# Altium footprint library rcl@1.PCBLIB: 487 footprints (part 25 of 31)
Each footprint in its own frame and in the unit in brackets; x right, y up, seen from the top. Pads: shape width x height; smd on the part's side, far side on the other; paste and mask are expansions set on the pad; w line width, h text height; cw(c..) or ccw(c..) is an arc to the next point about the centre after c.
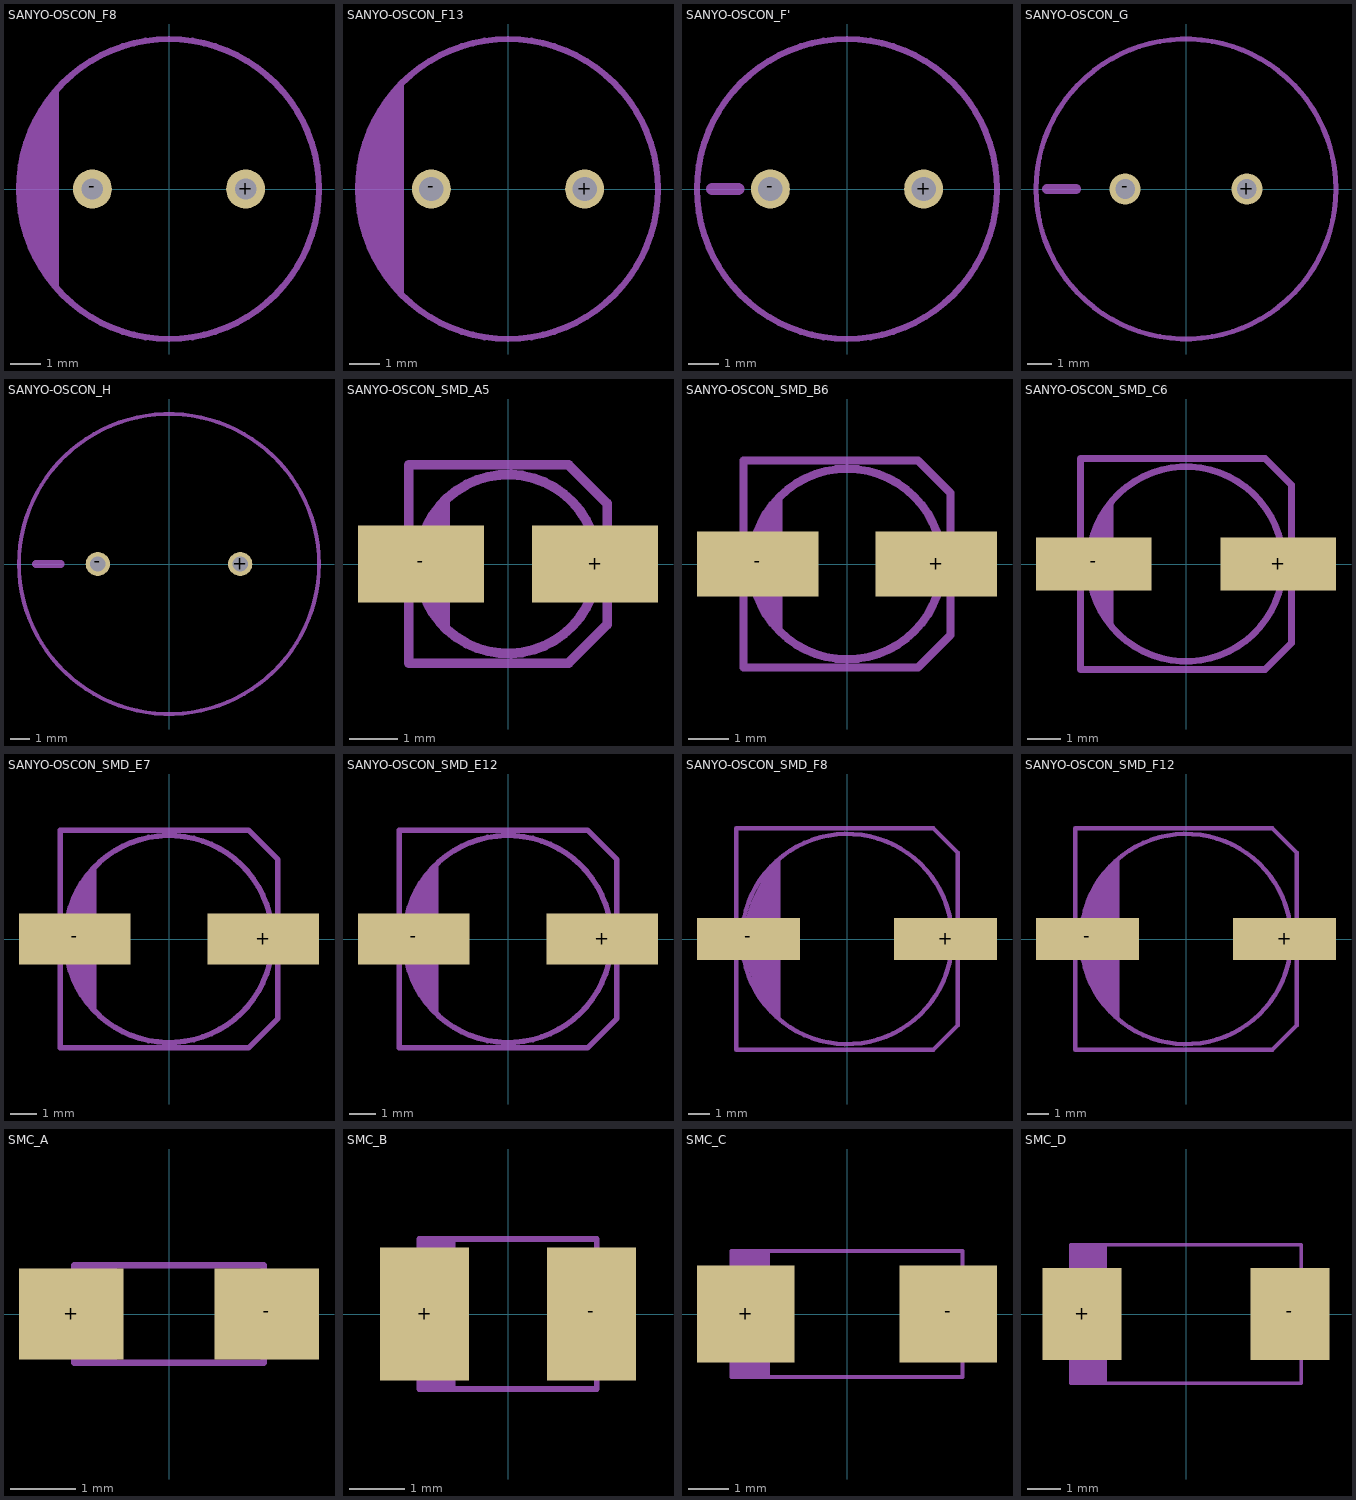
[diagram p24: the footprints below, top view; thin cyan lines are the x and y axes]

## SANYO-OSCON_F8 [mil]
pads (2):
  round 50 hole 27.56: +(98.43,0) -(-98.43,0)
tPlace:
  circle w8: c0,0 r192.91
  region: -141.73,125.98 -141.73,-127.95 -147.54,-121.4 -157.94,-107.3 -167.04,-92.33 -174.77,-76.6 -181.06,-60.25 -185.86,-43.4 -189.14,-26.19 -190.86,-8.76 -190.94,0 -190.86,8.65 -189.14,25.86 -185.87,42.84 -181.06,59.46 -174.77,75.57 -167.04,91.04 -157.94,105.75 -147.54,119.57 -141.73,125.98

## SANYO-OSCON_F13 [mil]
pads (2):
  round 50 hole 31.5: +(98.43,0) -(-98.43,0)
tPlace:
  circle w8: c0,0 r192.91
  region: -133.86,135.83 -133.86,-133.86 -140.27,-127.13 -151.85,-112.57 -162.07,-97.04 -170.87,-80.65 -178.16,-63.54 -183.9,-45.85 -188.03,-27.72 -190.52,-9.29 -190.94,0 -190.62,9.42 -188.27,28.11 -184.23,46.52 -178.54,64.48 -171.24,81.85 -162.39,98.48 -152.07,114.25 -140.36,129.01 -133.86,135.83

## SANYO-OSCON_F' [mil]
pads (2):
  round 50 hole 31.5: +(98.43,0) -(-98.43,0)
tPlace:
  circle w8: c0,0 r192.92
  lines w16: -173.23,0 -139.76,0

## SANYO-OSCON_G [mil]
pads (2):
  round 50 hole 31.5: +(98.43,0) -(-98.43,0)
tPlace:
  circle w8: c0,0 r242.13
  lines w16: -224.41,0 -177.17,0

## SANYO-OSCON_H [mil]
pads (2):
  round 50 hole 31.5: +(147.64,0) -(-147.64,0)
tPlace:
  circle w8: c0,0 r311.03
  lines w16: -275.59,0 -224.41,0

## SANYO-OSCON_SMD_A5 [mil]
pads (2):
  rect 102.36x62.99 smd: +(70.87,0) -(-70.87,0)
tDocu:
  circle w8: c0,0 r72.83
  region: -47.24,-53.15 -47.24,53.15 -52.65,47.98 -61.27,35.75 -67.35,22.07 -70.66,7.48 -70.87,0 -70.29,-7.41 -66.64,-21.82 -60.61,-35.4 -52.35,-47.76 -47.24,-53.15
  lines w8: -80.71,-80.71 -80.71,80.71 ; 80.71,-49.21 80.71,49.21
tPlace:
  lines w8: -80.71,-80.71 49.21,-80.71 80.71,-49.21 ; -80.71,80.71 49.21,80.71 80.71,49.21

## SANYO-OSCON_SMD_B6 [mm]
pads (2):
  rect 3x1.6 smd: +(2.2,0) -(-2.2,0)
tDocu:
  circle w0.203: c0,0 r2.35
  region: -1.6,-1.65 -1.6,1.65 -1.75,1.478 -1.991,1.091 -2.17,0.67 -2.28,0.227 -2.3,0 -2.293,-0.23 -2.194,-0.679 -2.014,-1.102 -1.76,-1.485 -1.6,-1.65
  lines w0.203: -2.55,-2.55 -2.55,2.55 ; 2.55,-1.75 2.55,1.75
tPlace:
  lines w0.203: -2.55,-2.55 1.75,-2.55 2.55,-1.75 ; -2.55,2.55 1.75,2.55 2.55,1.75

## SANYO-OSCON_SMD_C6 [mil]
pads (2):
  rect 137.8x62.99 smd: +(110.24,0) -(-110.24,0)
tDocu:
  circle w8: c0,0 r116.14
  region: -86.61,74.8 -86.61,-74.8 -92.9,-66.89 -102.59,-49.17 -109.13,-30.05 -112.32,-10.1 -112.2,0 -112.05,10.07 -108.6,29.91 -102.09,48.96 -92.66,66.75 -86.61,74.8
  lines w8: -125.98,-125.98 -125.98,125.98 ; 125.98,-94.49 125.98,94.49
tPlace:
  lines w8: -125.98,-125.98 94.49,-125.98 125.98,-94.49 ; -125.98,125.98 94.49,125.98 125.98,94.49

## SANYO-OSCON_SMD_E7 [mil]
pads (2):
  rect 163.39x74.8 smd: +(137.8,0) -(-137.8,0)
tDocu:
  circle w8: c0,0 r151.57
  region: -106.3,104.33 -106.3,-104.33 -111.55,-99.3 -120.95,-88.2 -129.16,-76.2 -136.09,-63.41 -141.66,-49.98 -145.82,-36.05 -148.53,-21.76 -149.75,-7.27 -149.61,0 -149.54,7.24 -148.02,21.65 -145.12,35.84 -140.87,49.69 -135.32,63.06 -128.51,75.85 -120.5,87.92 -111.38,99.17 -106.3,104.33
  lines w8: -159.45,-159.45 -159.45,159.45 ; 159.45,-116.14 159.45,116.14
tPlace:
  lines w8: -159.45,-159.45 116.14,-159.45 159.45,-116.14 ; -159.45,159.45 116.14,159.45 159.45,116.14

## SANYO-OSCON_SMD_E12 [mil]
pads (2):
  rect 163.39x74.8 smd: +(137.8,0) -(-137.8,0)
tDocu:
  circle w8: c0,0 r151.57
  region: -102.36,-108.27 -102.36,108.27 -107.94,103.06 -118.01,91.59 -126.92,79.19 -134.56,65.97 -140.88,52.08 -145.81,37.62 -149.29,22.76 -151.31,7.63 -151.57,0 -151.33,-7.63 -149.34,-22.77 -145.87,-37.65 -140.95,-52.1 -134.63,-66.01 -126.97,-79.22 -118.05,-91.61 -107.95,-103.07 -102.36,-108.27
  lines w8: -159.45,-159.45 -159.45,159.45 ; 159.45,-116.14 159.45,116.14
tPlace:
  lines w8: -159.45,-159.45 116.14,-159.45 159.45,-116.14 ; -159.45,159.45 116.14,159.45 159.45,116.14

## SANYO-OSCON_SMD_F8 [mm]
pads (2):
  rect 4.7x1.9 smd: +(4.5,0) -(-4.5,0)
tDocu:
  circle w0.203: c0,0 r4.8
  region: -3.05,-3.65 -3.05,3.65 -3.234,3.47 -3.568,3.079 -3.866,2.659 -4.124,2.213 -4.342,1.747 -4.516,1.262 -4.646,0.764 -4.731,0.257 -4.75,0 -4.734,-0.257 -4.655,-0.767 -4.528,-1.267 -4.355,-1.753 -4.138,-2.22 -3.877,-2.665 -3.576,-3.084 -3.237,-3.472 -3.05,-3.65
  lines w0.203: -5.05,-5.05 -5.05,5.05 ; 5.05,-3.95 5.05,3.95
tPlace:
  lines w0.203: -5.05,-5.05 3.95,-5.05 5.05,-3.95 ; -5.05,5.05 3.95,5.05 5.05,3.95

## SANYO-OSCON_SMD_F12 [mm]
pads (2):
  rect 4.7x1.9 smd: +(4.5,0) -(-4.5,0)
tDocu:
  circle w0.203: c0,0 r4.8
  region: -3.05,-3.65 -3.05,3.65 -3.247,3.481 -3.603,3.102 -3.916,2.689 -4.184,2.244 -4.403,1.773 -4.572,1.282 -4.687,0.775 -4.747,0.26 -4.75,0 -4.737,-0.258 -4.66,-0.768 -4.536,-1.269 -4.364,-1.756 -4.146,-2.224 -3.884,-2.669 -3.581,-3.087 -3.239,-3.474 -3.05,-3.65
  lines w0.203: -5.05,-5.05 -5.05,5.05 ; 5.05,-3.95 5.05,3.95
tPlace:
  lines w0.203: -5.05,-5.05 3.95,-5.05 5.05,-3.95 ; -5.05,5.05 3.95,5.05 5.05,3.95

## SMC_A [mil]
pads (2):
  rect 62.99x55.12 smd: +(-59.06,0) -(59.06,0)
tDocu:
  region: -62.99,-23.62 -62.99,23.62 -55.12,23.62 -55.12,-23.62
  region: 62.99,23.62 62.99,-23.62 55.12,-23.62 55.12,23.62
  region: -57.09,-29.53 -57.09,29.53 -31.5,29.53 -31.5,-29.53
  lines w4: -57.09,-29.53 57.09,-29.53 57.09,29.53 -57.09,29.53 -57.09,-29.53

## SMC_B [mil]
pads (2):
  rect 62.99x94.49 smd: +(-59.06,0) -(59.06,0)
tDocu:
  region: -68.9,-43.31 -68.9,43.31 -61.02,43.31 -61.02,-43.31
  region: 68.9,43.31 68.9,-43.31 61.02,-43.31 61.02,43.31
  region: -62.99,-53.15 -62.99,53.15 -37.4,53.15 -37.4,-53.15
  lines w4: -62.99,-53.15 62.99,-53.15 62.99,53.15 -62.99,53.15 -62.99,-53.15

## SMC_C [mil]
pads (2):
  rect 94.49x94.49 smd: +(-98.43,0) -(98.43,0)
tDocu:
  region: -118.11,-43.31 -118.11,43.31 -110.24,43.31 -110.24,-43.31
  region: 118.11,43.31 118.11,-43.31 110.24,-43.31 110.24,43.31
  region: -112.2,-61.02 -112.2,61.02 -74.8,61.02 -74.8,-61.02
  lines w4: -112.2,-61.02 112.2,-61.02 112.2,61.02 -112.2,61.02 -112.2,-61.02

## SMC_D [mil]
pads (2):
  rect 94.49x110.24 smd: +(-124.02,0) -(124.02,0)
tDocu:
  region: -143.7,-47.24 -143.7,47.24 -135.83,47.24 -135.83,-47.24
  region: 143.7,47.24 143.7,-47.24 135.83,-47.24 135.83,47.24
  region: -137.8,-82.68 -137.8,82.68 -94.49,82.68 -94.49,-82.68
  lines w4: -137.8,-82.68 137.8,-82.68 137.8,82.68 -137.8,82.68 -137.8,-82.68